# Altium schematic symbol library CL_STD_FERRITE.SchLib: 1 symbol
Pins are listed as number, name and electrical type; pins without a type are passive.

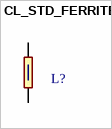
[diagram p0: symbol CL_STD_FERRITE]

## CL_STD_FERRITE
designator L?
Ferrite Bead
pins: 1, 2